# Altium footprint library CT1000-1.PcbLib: 1 footprints
Each footprint in its own frame and in the unit in brackets; x right, y up, seen from the top. Pads: shape width x height; smd on the part's side, far side on the other; paste and mask are expansions set on the pad; w line width, h text height; cw(c..) or ccw(c..) is an arc to the next point about the centre after c.
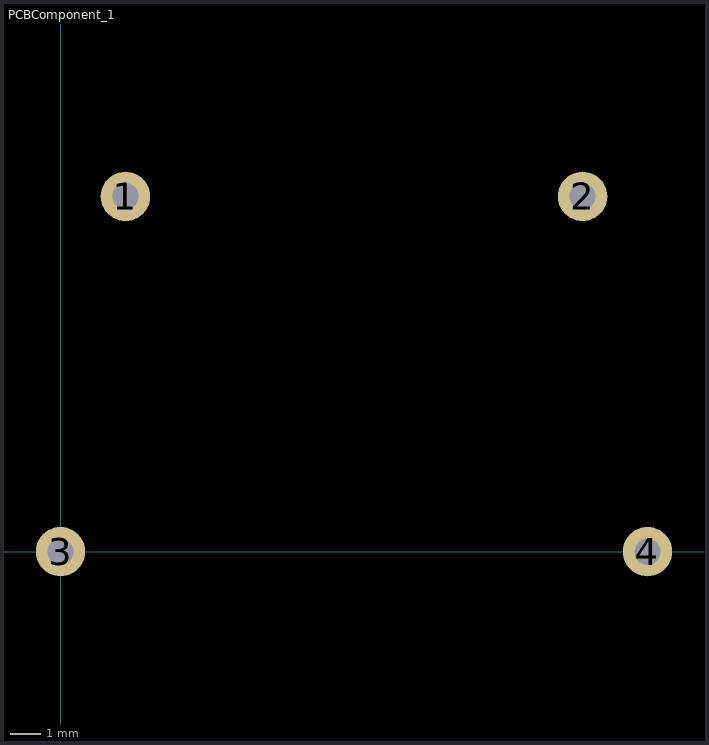
[diagram p0: the footprint, top view; thin cyan lines are the x and y axes]

## PCBComponent_1 [mm]
pads (4):
  round 1.6 hole 0.85: 1(2.1,11.5) 2(16.9,11.5) 3(0,0) 4(19,0)
3D body "CT_cutleg.SLDPRT": height 25.02, standoff -2.47, extent -2.75,-0.5 21.75,12